# Altium footprint library CONN_TBLOCK_5P0_A.PcbLib: 45 footprints (part 2 of 3)
Each footprint in its own frame and in the unit in brackets; x right, y up, seen from the top. Pads: shape width x height; smd on the part's side, far side on the other; paste and mask are expansions set on the pad; w line width, h text height; cw(c..) or ccw(c..) is an arc to the next point about the centre after c.
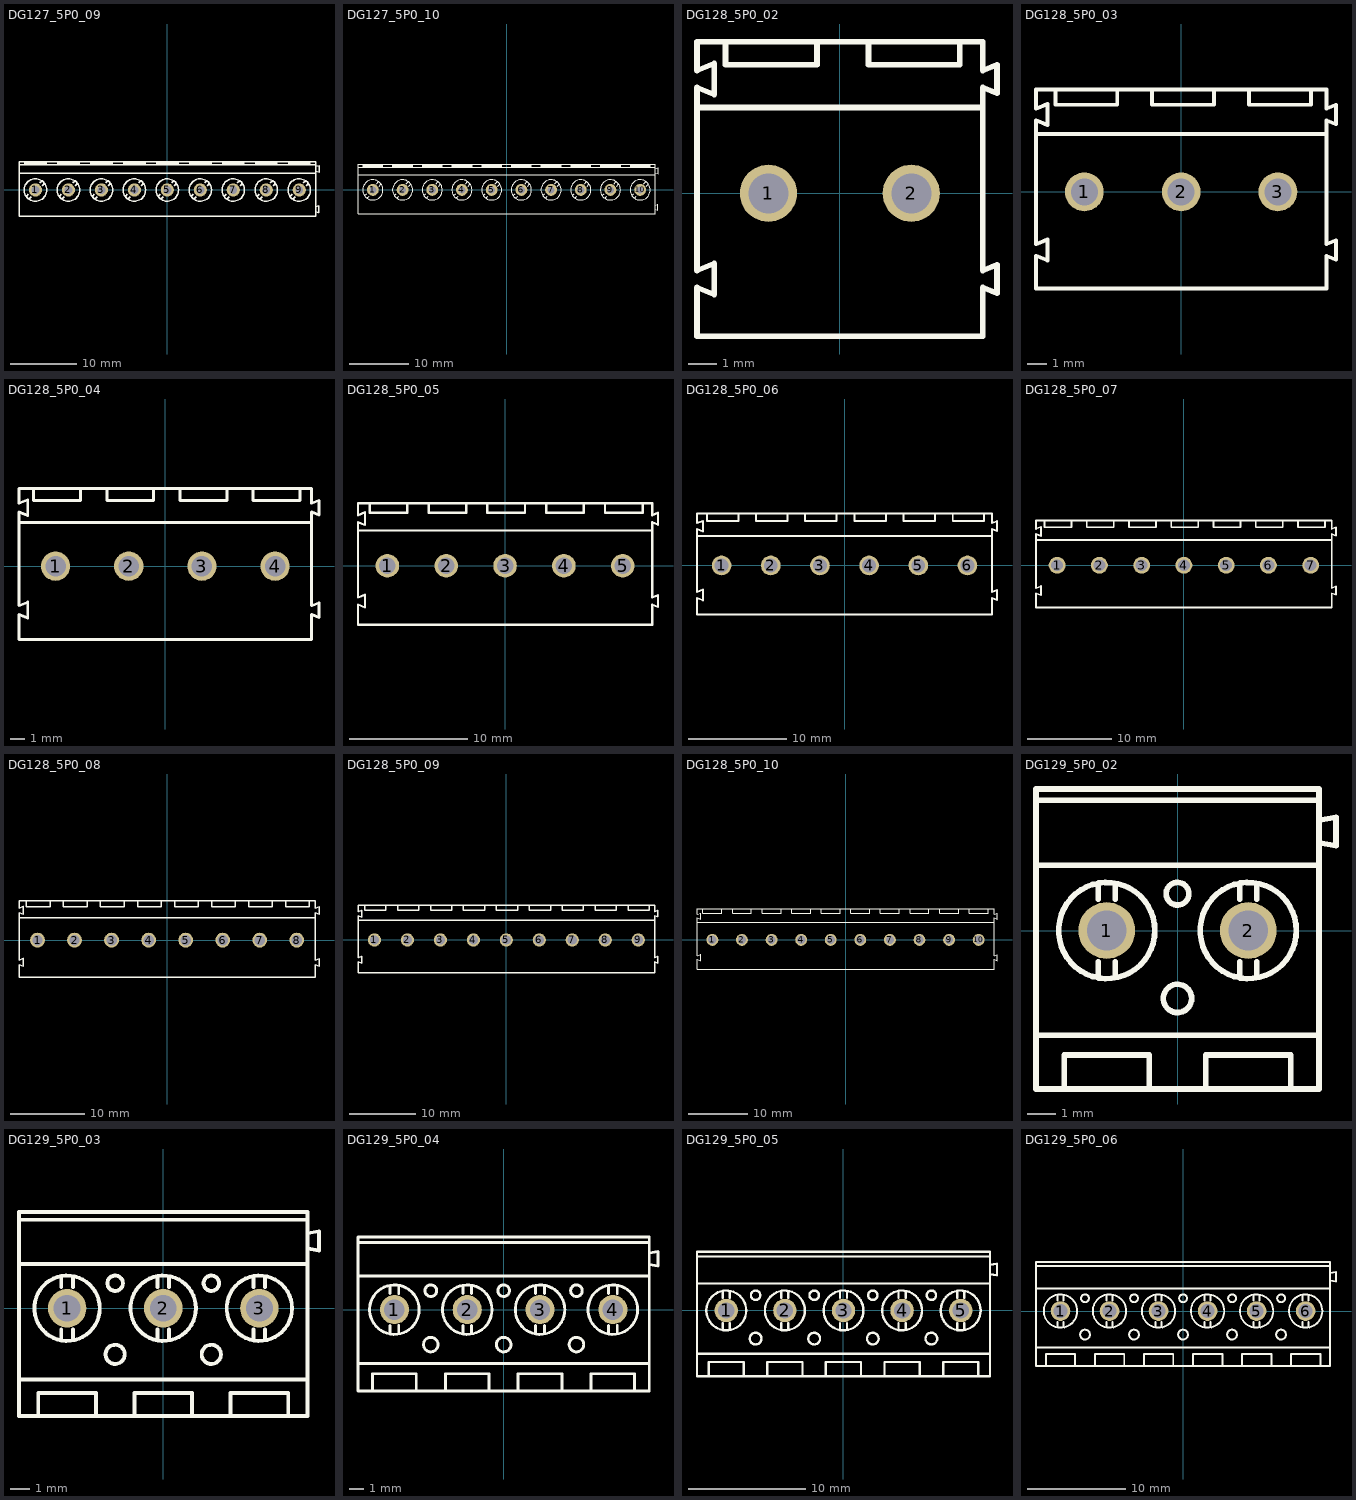
[diagram p1: the footprints below, top view; thin cyan lines are the x and y axes]

## DG127_5P0_09 [mm] "Terminal Block Screw, Pitch 5mm, H10mm, DG127-5.0-xxP"
height 10
pads (9):
  round 2 / inner round 2 / far side rect 2.4x3 hole 1.2: 1(-20,0)
  round 2 / inner round 2 / far side oval 2.4x3 hole 1.2: 2(-15,0) 3(-10,0) 4(-5,0) 5(0,0) 6(5,0) 7(10,0) 8(15,0) 9(20,0)
Top Overlay:
  circle w0.2: c-20,0 r1.7
  circle w0.2: c-15,0 r1.7
  circle w0.2: c-5,0 r1.7
  circle w0.2: c-10,0 r1.7
  circle w0.2: c5,0 r1.7
  circle w0.2: c0,0 r1.7
  circle w0.2: c15,0 r1.7
  circle w0.2: c10,0 r1.7
  circle w0.2: c20,0 r1.7
  region: 18.3,3.8 18.3,4.3 21.7,4.3 21.7,3.8
  region: 13.3,3.8 13.3,4.3 16.7,4.3 16.7,3.8
  region: 8.3,3.8 8.3,4.3 11.7,4.3 11.7,3.8
  region: 3.3,3.8 3.3,4.3 6.7,4.3 6.7,3.8
  region: -1.7,3.8 -1.7,4.3 1.7,4.3 1.7,3.8
  region: -6.7,3.8 -6.7,4.3 -3.3,4.3 -3.3,3.8
  region: -11.7,3.8 -11.7,4.3 -8.3,4.3 -8.3,3.8
  region: -16.7,3.8 -16.7,4.3 -13.3,4.3 -13.3,3.8
  region: -21.7,3.8 -21.7,4.3 -18.3,4.3 -18.3,3.8
  lines w0.2: -22.5,2.562 22.5,2.562 ; -22.5,3.8 22.5,3.8 ; -21.343,-0.919 -21.06,-0.636 ; -20.919,-1.344 -20.636,-1.061 ; -19.363,1.061 -19.081,1.343 ; -18.939,0.636 -18.656,0.919 ; -16.343,-0.919 -16.06,-0.636 ; -15.919,-1.344 -15.636,-1.061 ; -14.363,1.061 -14.081,1.343 ; -13.939,0.636 -13.656,0.919 ; -11.344,-0.919 -11.061,-0.636 ; -10.919,-1.344 -10.636,-1.061 ; -9.364,1.061 -9.081,1.343 ; -8.939,0.636 -8.657,0.919 ; -6.344,-0.919 -6.061,-0.636 ; -5.919,-1.344 -5.636,-1.061 ; -4.364,1.061 -4.081,1.343 ; -3.939,0.636 -3.657,0.919 ; -1.344,-0.919 -1.061,-0.636 ; -0.919,-1.344 -0.637,-1.061 ; 0.636,1.061 0.919,1.343 ; 1.061,0.636 1.343,0.919 ; 3.656,-0.919 3.939,-0.636 ; 4.081,-1.344 4.363,-1.061 ; 5.636,1.061 5.919,1.343 ; 6.06,0.636 6.343,0.919 ; 8.656,-0.919 8.939,-0.636 ; 9.08,-1.344 9.363,-1.061 ; 10.636,1.061 10.919,1.343 ; 11.06,0.636 11.343,0.919 ; 13.656,-0.919 13.939,-0.636 ; 14.08,-1.344 14.363,-1.061 ; 15.636,1.061 15.919,1.343 ; 16.06,0.636 16.343,0.919 ; 18.656,-0.919 18.939,-0.636 ; 19.08,-1.344 19.363,-1.061 ; 20.636,1.061 20.919,1.343 ; 21.06,0.636 21.343,0.919 ; 22.5,-3.3 22.994,-3.424 22.994,-2.424 22.5,-2.547 ; 22.506,2.824 23,2.7 23,3.7 22.506,3.576 ; -22.5,-4 -22.5,4.3 22.5,4.3 22.5,-4 -22.5,-4
3D body "DG127-5.0-09P-14.stp": height 10.1, standoff -3.7, extent -22.5,-3.9 23,4.2

## DG127_5P0_10 [mm] "Terminal Block Screw, Pitch 5mm, H10mm, DG127-5.0-xxP"
height 10
pads (10):
  round 2 / inner round 2 / far side rect 2.4x3 hole 1.2: 1(-22.5,0)
  round 2 / inner round 2 / far side oval 2.4x3 hole 1.2: 2(-17.5,0) 3(-12.5,0) 4(-7.5,0) 5(-2.5,0) 6(2.5,0) 7(7.5,0) 8(12.5,0) 9(17.5,0) 10(22.5,0)
Top Overlay:
  circle w0.2: c17.5,0 r1.7
  circle w0.2: c22.5,0 r1.7
  circle w0.2: c7.5,0 r1.7
  circle w0.2: c12.5,0 r1.7
  circle w0.2: c-2.5,0 r1.7
  circle w0.2: c2.5,0 r1.7
  circle w0.2: c-12.5,0 r1.7
  circle w0.2: c-7.5,0 r1.7
  circle w0.2: c-22.5,0 r1.7
  circle w0.2: c-17.5,0 r1.7
  region: 20.8,3.8 20.8,4.3 24.2,4.3 24.2,3.8
  region: 15.8,3.8 15.8,4.3 19.2,4.3 19.2,3.8
  region: 10.8,3.8 10.8,4.3 14.2,4.3 14.2,3.8
  region: 5.8,3.8 5.8,4.3 9.2,4.3 9.2,3.8
  region: 0.8,3.8 0.8,4.3 4.2,4.3 4.2,3.8
  region: -4.2,3.8 -4.2,4.3 -0.8,4.3 -0.8,3.8
  region: -9.2,3.8 -9.2,4.3 -5.8,4.3 -5.8,3.8
  region: -14.2,3.8 -14.2,4.3 -10.8,4.3 -10.8,3.8
  region: -19.2,3.8 -19.2,4.3 -15.8,4.3 -15.8,3.8
  region: -24.2,3.8 -24.2,4.3 -20.8,4.3 -20.8,3.8
  lines w0.2: -25,2.562 25,2.562 ; -25,3.8 25,3.8 ; -23.843,-0.919 -23.56,-0.636 ; -23.419,-1.344 -23.136,-1.061 ; -21.863,1.061 -21.581,1.343 ; -21.439,0.636 -21.156,0.919 ; -18.843,-0.919 -18.56,-0.636 ; -18.419,-1.344 -18.136,-1.061 ; -16.863,1.061 -16.581,1.343 ; -16.439,0.636 -16.156,0.919 ; -13.843,-0.919 -13.561,-0.636 ; -13.419,-1.344 -13.136,-1.061 ; -11.863,1.061 -11.581,1.343 ; -11.439,0.636 -11.156,0.919 ; -8.843,-0.919 -8.561,-0.636 ; -8.419,-1.344 -8.136,-1.061 ; -6.864,1.061 -6.581,1.343 ; -6.439,0.636 -6.156,0.919 ; -3.843,-0.919 -3.561,-0.636 ; -3.419,-1.344 -3.136,-1.061 ; -1.864,1.061 -1.581,1.343 ; -1.439,0.636 -1.156,0.919 ; 1.156,-0.919 1.439,-0.636 ; 1.581,-1.344 1.864,-1.061 ; 3.136,1.061 3.419,1.343 ; 3.561,0.636 3.843,0.919 ; 6.156,-0.919 6.439,-0.636 ; 6.581,-1.344 6.863,-1.061 ; 8.136,1.061 8.419,1.343 ; 8.561,0.636 8.843,0.919 ; 11.156,-0.919 11.439,-0.636 ; 11.581,-1.344 11.863,-1.061 ; 13.136,1.061 13.419,1.343 ; 13.56,0.636 13.843,0.919 ; 16.156,-0.919 16.439,-0.636 ; 16.581,-1.344 16.863,-1.061 ; 18.136,1.061 18.419,1.343 ; 18.56,0.636 18.843,0.919 ; 21.156,-0.919 21.439,-0.636 ; 21.58,-1.344 21.863,-1.061 ; 23.136,1.061 23.419,1.343 ; 23.56,0.636 23.843,0.919 ; 25,-3.3 25.494,-3.424 25.494,-2.424 25,-2.547 ; 25.006,2.824 25.5,2.7 25.5,3.7 25.006,3.576 ; -25,-4 -25,4.3 25,4.3 25,-4 -25,-4
3D body "DG127-5.0-10P-14.stp": height 10.1, standoff -3.7, extent -25,-3.9 25.5,4.2

## DG128_5P0_02 [mm] "Terminal Block, Pitch 5mm, 20A/300v"
height 14.1
pads (2):
  round 2 / inner round 2 / far side oval 2x3.6 hole 1.4: 1(-2.5,0) 2(2.5,0)
Top Overlay:
  lines w0.2: -5,3 5,3 ; -4,5.3 -4,4.5 -0.8,4.5 -0.8,5.3 ; 1,5.3 1,4.5 4.2,4.5 4.2,5.3 ; -5,-5 5,-5 5,-3.3 5.5,-3.5 5.5,-2.5 5,-2.7 5,3.7 5.5,3.5 5.5,4.5 5,4.3 5,5.3 -5,5.3 -5,4.3 -4.4,4.54 -4.4,3.46 -5,3.7 -5,-2.7 -4.4,-2.46 -4.4,-3.54 -5,-3.3 -5,-5
3D body "DG128-5.0-02.stp": height 14.1, standoff -3.5, extent -5,-5 5.6,5.2

## DG128_5P0_03 [mm] "Terminal Block, Pitch 5mm, 20A/300v"
height 14.1
pads (3):
  round 2 / inner round 2 / far side oval 2x3.6 hole 1.4: 1(-5,0) 2(0,0) 3(5,0)
Top Overlay:
  lines w0.2: -7.5,3 7.5,3 ; -6.5,5.3 -6.5,4.5 -3.3,4.5 -3.3,5.3 ; -1.5,5.3 -1.5,4.5 1.7,4.5 1.7,5.3 ; 3.5,5.3 3.5,4.5 6.7,4.5 6.7,5.3 ; -7.5,-5 7.5,-5 7.5,-3.3 8,-3.5 8,-2.5 7.5,-2.7 7.5,3.7 8,3.5 8,4.5 7.5,4.3 7.5,5.3 -7.5,5.3 -7.5,4.3 -6.9,4.54 -6.9,3.46 -7.5,3.7 -7.5,-2.7 -6.9,-2.46 -6.9,-3.54 -7.5,-3.3 -7.5,-5
3D body "DG128-5.0-03.stp": height 14.1, standoff -3.5, extent -7.5,-5 8.1,5.2

## DG128_5P0_04 [mm] "Terminal Block, Pitch 5mm, 20A/300v"
height 14.1
pads (4):
  round 2 / inner round 2 / far side oval 2x3.6 hole 1.4: 1(-7.5,0) 2(-2.5,0) 3(2.5,0) 4(7.5,0)
Top Overlay:
  lines w0.2: -10,3 10,3 ; -9,5.3 -9,4.5 -5.8,4.5 -5.8,5.3 ; -4,5.3 -4,4.5 -0.8,4.5 -0.8,5.3 ; 1,5.3 1,4.5 4.2,4.5 4.2,5.3 ; 6,5.3 6,4.5 9.2,4.5 9.2,5.3 ; -10,-5 10,-5 10,-3.3 10.5,-3.5 10.5,-2.5 10,-2.7 10,3.7 10.5,3.5 10.5,4.5 10,4.3 10,5.3 -10,5.3 -10,4.3 -9.4,4.54 -9.4,3.46 -10,3.7 -10,-2.7 -9.4,-2.46 -9.4,-3.54 -10,-3.3 -10,-5
3D body "DG128-5.0-04.stp": height 14.1, standoff -3.5, extent -10,-4.95 10.6,5.25

## DG128_5P0_05 [mm] "Terminal Block, Pitch 5mm, 20A/300v"
height 14.1
pads (5):
  round 2 / inner round 2 / far side oval 2x3.6 hole 1.4: 1(-10,0) 2(-5,0) 3(0,0) 4(5,0) 5(10,0)
Top Overlay:
  lines w0.2: -12.5,3 12.5,3 ; -11.5,5.3 -11.5,4.5 -8.3,4.5 -8.3,5.3 ; -6.5,5.3 -6.5,4.5 -3.3,4.5 -3.3,5.3 ; -1.5,5.3 -1.5,4.5 1.7,4.5 1.7,5.3 ; 3.5,5.3 3.5,4.5 6.7,4.5 6.7,5.3 ; 8.5,5.3 8.5,4.5 11.7,4.5 11.7,5.3 ; -12.5,-5 12.5,-5 12.5,-3.3 13,-3.5 13,-2.5 12.5,-2.7 12.5,3.7 13,3.5 13,4.5 12.5,4.3 12.5,5.3 -12.5,5.3 -12.5,4.3 -11.9,4.54 -11.9,3.46 -12.5,3.7 -12.5,-2.7 -11.9,-2.46 -11.9,-3.54 -12.5,-3.3 -12.5,-5
3D body "DG128-5.0-05.stp": height 14.1, standoff -3.5, extent -12.5,-5 13.1,5.2

## DG128_5P0_06 [mm] "Terminal Block, Pitch 5mm, 20A/300v"
height 14.1
pads (6):
  round 2 / inner round 2 / far side oval 2x3.6 hole 1.4: 1(-12.5,0) 2(-7.5,0) 3(-2.5,0) 4(2.5,0) 5(7.5,0) 6(12.5,0)
Top Overlay:
  lines w0.2: -15,3 15,3 ; -14,5.3 -14,4.5 -10.8,4.5 -10.8,5.3 ; -9,5.3 -9,4.5 -5.8,4.5 -5.8,5.3 ; -4,5.3 -4,4.5 -0.8,4.5 -0.8,5.3 ; 1,5.3 1,4.5 4.2,4.5 4.2,5.3 ; 6,5.3 6,4.5 9.2,4.5 9.2,5.3 ; 11,5.3 11,4.5 14.2,4.5 14.2,5.3 ; -15,-5 -15,-3.3 -14.4,-3.54 -14.4,-2.46 -15,-2.7 -15,3.7 -14.4,3.46 -14.4,4.54 -15,4.3 -15,5.3 15,5.3 15,4.3 15.5,4.5 15.5,3.5 15,3.7 15,-2.7 15.5,-2.5 15.5,-3.5 15,-3.3 15,-5 -15,-5
3D body "DG128-5.0-06.stp": height 14.1, standoff -3.5, extent -15,-4.95 15.6,5.25

## DG128_5P0_07 [mm] "Terminal Block, Pitch 5mm, 20A/300v"
height 14.1
pads (7):
  round 2 / inner round 2 / far side oval 2x3.6 hole 1.4: 1(-15,0) 2(-10,0) 3(-5,0) 4(0,0) 5(5,0) 6(10,0) 7(15,0)
Top Overlay:
  lines w0.2: -17.5,3 17.5,3 ; -16.5,5.3 -16.5,4.5 -13.3,4.5 -13.3,5.3 ; -11.5,5.3 -11.5,4.5 -8.3,4.5 -8.3,5.3 ; -6.5,5.3 -6.5,4.5 -3.3,4.5 -3.3,5.3 ; -1.5,5.3 -1.5,4.5 1.7,4.5 1.7,5.3 ; 3.5,5.3 3.5,4.5 6.7,4.5 6.7,5.3 ; 8.5,5.3 8.5,4.5 11.7,4.5 11.7,5.3 ; 13.5,5.3 13.5,4.5 16.7,4.5 16.7,5.3 ; -17.5,-5 17.5,-5 17.5,-3.3 18,-3.5 18,-2.5 17.5,-2.7 17.5,3.7 18,3.5 18,4.5 17.5,4.3 17.5,5.3 -17.5,5.3 -17.5,4.3 -16.9,4.54 -16.9,3.46 -17.5,3.7 -17.5,-2.7 -16.9,-2.46 -16.9,-3.54 -17.5,-3.3 -17.5,-5
3D body "DG128-5.0-07.stp": height 14.1, standoff -3.5, extent -17.5,-5 18.1,5.2

## DG128_5P0_08 [mm] "Terminal Block, Pitch 5mm, 20A/300v"
height 14.1
pads (8):
  round 2 / inner round 2 / far side oval 2x3.6 hole 1.4: 1(-17.5,0) 2(-12.5,0) 3(-7.5,0) 4(-2.5,0) 5(2.5,0) 6(7.5,0) 7(12.5,0) 8(17.5,0)
Top Overlay:
  lines w0.2: -20,3 20,3 ; -19,5.3 -19,4.5 -15.8,4.5 -15.8,5.3 ; -14,5.3 -14,4.5 -10.8,4.5 -10.8,5.3 ; -9,5.3 -9,4.5 -5.8,4.5 -5.8,5.3 ; -4,5.3 -4,4.5 -0.8,4.5 -0.8,5.3 ; 1,5.3 1,4.5 4.2,4.5 4.2,5.3 ; 6,5.3 6,4.5 9.2,4.5 9.2,5.3 ; 11,5.3 11,4.5 14.2,4.5 14.2,5.3 ; 16,5.3 16,4.5 19.2,4.5 19.2,5.3 ; -20,-5 -20,-3.3 -19.4,-3.54 -19.4,-2.46 -20,-2.7 -20,3.7 -19.4,3.46 -19.4,4.54 -20,4.3 -20,5.3 20,5.3 20,4.3 20.5,4.5 20.5,3.5 20,3.7 20,-2.7 20.5,-2.5 20.5,-3.5 20,-3.3 20,-5 -20,-5
3D body "DG128-5.0-08.stp": height 14.1, standoff -3.5, extent -20,-4.95 20.6,5.25

## DG128_5P0_09 [mm] "Terminal Block, Pitch 5mm, 20A/300v"
height 14.1
pads (9):
  round 2 / inner round 2 / far side oval 2x3.6 hole 1.4: 1(-20,0) 2(-15,0) 3(-10,0) 4(-5,0) 5(0,0) 6(5,0) 7(10,0) 8(15,0) 9(20,0)
Top Overlay:
  lines w0.2: -22.5,3 22.5,3 ; -21.5,5.3 -21.5,4.5 -18.3,4.5 -18.3,5.3 ; -16.5,5.3 -16.5,4.5 -13.3,4.5 -13.3,5.3 ; -11.5,5.3 -11.5,4.5 -8.3,4.5 -8.3,5.3 ; -6.5,5.3 -6.5,4.5 -3.3,4.5 -3.3,5.3 ; -1.5,5.3 -1.5,4.5 1.7,4.5 1.7,5.3 ; 3.5,5.3 3.5,4.5 6.7,4.5 6.7,5.3 ; 8.5,5.3 8.5,4.5 11.7,4.5 11.7,5.3 ; 13.5,5.3 13.5,4.5 16.7,4.5 16.7,5.3 ; 18.5,5.3 18.5,4.5 21.7,4.5 21.7,5.3 ; -22.5,-5 -22.5,-3.3 -21.9,-3.54 -21.9,-2.46 -22.5,-2.7 -22.5,3.7 -21.9,3.46 -21.9,4.54 -22.5,4.3 -22.5,5.3 22.5,5.3 22.5,4.3 23,4.5 23,3.5 22.5,3.7 22.5,-2.7 23,-2.5 23,-3.5 22.5,-3.3 22.5,-5 -22.5,-5
3D body "DG128-5.0-09.stp": height 14.1, standoff -3.5, extent -22.5,-5 23.1,5.2

## DG128_5P0_10 [mm] "Terminal Block, Pitch 5mm, 20A/300v"
height 14.1
pads (10):
  round 2 / inner round 2 / far side oval 2x3.6 hole 1.4: 1(-22.5,0) 2(-17.5,0) 3(-12.5,0) 4(-7.5,0) 5(-2.5,0) 6(2.5,0) 7(7.5,0) 8(12.5,0) 9(17.5,0) 10(22.5,0)
Top Overlay:
  lines w0.2: -25.1,3 25.1,3 ; -24.1,5.3 -24.1,4.5 -20.9,4.5 -20.9,5.3 ; -19.1,5.3 -19.1,4.5 -15.9,4.5 -15.9,5.3 ; -14.1,5.3 -14.1,4.5 -10.9,4.5 -10.9,5.3 ; -9.1,5.3 -9.1,4.5 -5.9,4.5 -5.9,5.3 ; -4.1,5.3 -4.1,4.5 -0.9,4.5 -0.9,5.3 ; 0.9,5.3 0.9,4.5 4.1,4.5 4.1,5.3 ; 5.9,5.3 5.9,4.5 9.1,4.5 9.1,5.3 ; 10.9,5.3 10.9,4.5 14.1,4.5 14.1,5.3 ; 15.9,5.3 15.9,4.5 19.1,4.5 19.1,5.3 ; 20.9,5.3 20.9,4.5 24.1,4.5 24.1,5.3 ; -25.1,-5 -25.1,-3.3 -24.5,-3.54 -24.5,-2.46 -25.1,-2.7 -25.1,3.7 -24.5,3.46 -24.5,4.54 -25.1,4.3 -25.1,5.3 25.1,5.3 25.1,4.3 25.6,4.5 25.6,3.5 25.1,3.7 25.1,-2.7 25.6,-2.5 25.6,-3.5 25.1,-3.3 25.1,-5 -25.1,-5
3D body "DG128-5.0-10.stp": height 14.15, standoff -3.45, extent -25,-4.954 25.6,5.246

## DG129_5P0_02 [mm] "Terminal Block Screw, Pitch 5mm, H20mm"
height 20
pads (2):
  round 2 / inner round 2 / far side oval 2.4x3 hole 1.4: 1(-2.5,0) 2(2.5,0)
Top Overlay:
  circle w0.2: c-2.5,0 r1.7
  circle w0.2: c2.5,0 r1.7
  circle w0.2: c0,1.3 r0.4
  circle w0.2: c0,-2.4 r0.5
  lines w0.2: -5,-3.7 5,-3.7 ; -5,2.3 5,2.3 ; -5,4.6 5,4.6 ; -4,-5.6 -4,-4.4 -1,-4.4 -1,-5.6 ; -2.8,-1.6 -2.8,-1.1 ; -2.8,1.1 -2.8,1.6 ; -2.2,-1.6 -2.2,-1.1 ; -2.2,1.1 -2.2,1.6 ; 1,-5.6 1,-4.4 4,-4.4 4,-5.6 ; 2.2,-1.6 2.2,-1.1 ; 2.2,1.1 2.2,1.6 ; 2.8,-1.6 2.8,-1.1 ; 2.8,1.1 2.8,1.6 ; 5,3.1 5.6,3 5.6,4 5,3.9 ; -5,-5.6 5,-5.6 5,5 -5,5 -5,-5.6
3D body "DG129-5.0-02P-14.stp": height 19.5, standoff -3.95, extent -5,-5.6 5.6,4.9

## DG129_5P0_03 [mm] "Terminal Block Screw, Pitch 5mm, H20mm"
height 20
pads (3):
  round 2 / inner round 2 / far side oval 2.4x3 hole 1.4: 1(-5,0) 2(0,0) 3(5,0)
Top Overlay:
  circle w0.2: c-5,0 r1.7
  circle w0.2: c0,0 r1.7
  circle w0.2: c-2.5,1.3 r0.4
  circle w0.2: c-2.5,-2.4 r0.5
  circle w0.2: c5,0 r1.7
  circle w0.2: c2.5,1.3 r0.4
  circle w0.2: c2.5,-2.4 r0.5
  lines w0.2: -7.5,-3.7 7.5,-3.7 ; -7.5,2.3 7.5,2.3 ; -7.5,4.6 7.5,4.6 ; -6.5,-5.6 -6.5,-4.4 -3.5,-4.4 -3.5,-5.6 ; -5.3,-1.6 -5.3,-1.1 ; -5.3,1.1 -5.3,1.6 ; -4.7,-1.6 -4.7,-1.1 ; -4.7,1.1 -4.7,1.6 ; -1.5,-5.6 -1.5,-4.4 1.5,-4.4 1.5,-5.6 ; -0.3,-1.6 -0.3,-1.1 ; -0.3,1.1 -0.3,1.6 ; 0.3,-1.6 0.3,-1.1 ; 0.3,1.1 0.3,1.6 ; 3.5,-5.6 3.5,-4.4 6.5,-4.4 6.5,-5.6 ; 4.7,-1.6 4.7,-1.1 ; 4.7,1.1 4.7,1.6 ; 5.3,-1.6 5.3,-1.1 ; 5.3,1.1 5.3,1.6 ; 7.5,-5.6 7.5,5 ; 7.5,3.1 8.1,3 8.1,4 7.5,3.9 ; 7.5,-5.6 -7.5,-5.6 -7.5,5 7.5,5
3D body "DG129-5.0-03P-14.stp": height 19.5, standoff -3.95, extent -7.5,-5.6 8.1,4.9

## DG129_5P0_04 [mm] "Terminal Block Screw, Pitch 5mm, H20mm"
height 20
pads (4):
  round 2 / inner round 2 / far side oval 2.4x3 hole 1.4: 1(-7.5,0) 2(-2.5,0) 3(2.5,0) 4(7.5,0)
Top Overlay:
  circle w0.2: c-5,-2.4 r0.5
  circle w0.2: c-5,1.3 r0.4
  circle w0.2: c-2.5,0 r1.7
  circle w0.2: c-7.5,0 r1.7
  circle w0.2: c2.5,0 r1.7
  circle w0.2: c0,1.3 r0.4
  circle w0.2: c0,-2.4 r0.5
  circle w0.2: c7.5,0 r1.7
  circle w0.2: c5,1.3 r0.4
  circle w0.2: c5,-2.4 r0.5
  lines w0.2: -10,-3.7 10,-3.7 ; -10,2.3 10,2.3 ; -10,4.6 10,4.6 ; -9,-5.6 -9,-4.4 -6,-4.4 -6,-5.6 ; -7.8,-1.6 -7.8,-1.1 ; -7.8,1.1 -7.8,1.6 ; -7.2,-1.6 -7.2,-1.1 ; -7.2,1.1 -7.2,1.6 ; -4,-5.6 -4,-4.4 -1,-4.4 -1,-5.6 ; -2.8,-1.6 -2.8,-1.1 ; -2.8,1.1 -2.8,1.6 ; -2.2,-1.6 -2.2,-1.1 ; -2.2,1.1 -2.2,1.6 ; 1,-5.6 1,-4.4 4,-4.4 4,-5.6 ; 2.2,-1.6 2.2,-1.1 ; 2.2,1.1 2.2,1.6 ; 2.8,-1.6 2.8,-1.1 ; 2.8,1.1 2.8,1.6 ; 6,-5.6 6,-4.4 9,-4.4 9,-5.6 ; 7.2,-1.6 7.2,-1.1 ; 7.2,1.1 7.2,1.6 ; 7.8,-1.6 7.8,-1.1 ; 7.8,1.1 7.8,1.6 ; 10,3.1 10.6,3 10.6,4 10,3.9 ; -10,-5.6 -10,5 10,5 10,-5.6 -10,-5.6
3D body "DG129-5.0-04P-14.stp": height 19.5, standoff -3.95, extent -10,-5.6 10.6,4.9

## DG129_5P0_05 [mm] "Terminal Block Screw, Pitch 5mm, H20mm"
height 20
pads (5):
  round 2 / inner round 2 / far side oval 2.4x3 hole 1.4: 1(-10,0) 2(-5,0) 3(0,0) 4(5,0) 5(10,0)
Top Overlay:
  circle w0.2: c7.5,-2.4 r0.5
  circle w0.2: c7.5,1.3 r0.4
  circle w0.2: c10,0 r1.7
  circle w0.2: c2.5,-2.4 r0.5
  circle w0.2: c2.5,1.3 r0.4
  circle w0.2: c5,0 r1.7
  circle w0.2: c-2.5,-2.4 r0.5
  circle w0.2: c-2.5,1.3 r0.4
  circle w0.2: c0,0 r1.7
  circle w0.2: c-7.5,-2.4 r0.5
  circle w0.2: c-7.5,1.3 r0.4
  circle w0.2: c-5,0 r1.7
  circle w0.2: c-10,0 r1.7
  lines w0.2: -12.5,-3.7 12.5,-3.7 ; -12.5,2.3 12.5,2.3 ; -12.5,4.6 12.5,4.6 ; -11.5,-5.6 -11.5,-4.4 -8.5,-4.4 -8.5,-5.6 ; -10.3,-1.6 -10.3,-1.1 ; -10.3,1.1 -10.3,1.6 ; -9.7,-1.6 -9.7,-1.1 ; -9.7,1.1 -9.7,1.6 ; -6.5,-5.6 -6.5,-4.4 -3.5,-4.4 -3.5,-5.6 ; -5.3,-1.6 -5.3,-1.1 ; -5.3,1.1 -5.3,1.6 ; -4.7,-1.6 -4.7,-1.1 ; -4.7,1.1 -4.7,1.6 ; -1.5,-5.6 -1.5,-4.4 1.5,-4.4 1.5,-5.6 ; -0.3,-1.6 -0.3,-1.1 ; -0.3,1.1 -0.3,1.6 ; 0.3,-1.6 0.3,-1.1 ; 0.3,1.1 0.3,1.6 ; 3.5,-5.6 3.5,-4.4 6.5,-4.4 6.5,-5.6 ; 4.7,-1.6 4.7,-1.1 ; 4.7,1.1 4.7,1.6 ; 5.3,-1.6 5.3,-1.1 ; 5.3,1.1 5.3,1.6 ; 8.5,-5.6 8.5,-4.4 11.5,-4.4 11.5,-5.6 ; 9.7,-1.6 9.7,-1.1 ; 9.7,1.1 9.7,1.6 ; 10.3,-1.6 10.3,-1.1 ; 10.3,1.1 10.3,1.6 ; 12.5,-5.6 12.5,5 ; 12.5,3.1 13.1,3 13.1,4 12.5,3.9 ; 12.5,-5.6 -12.5,-5.6 -12.5,5 12.5,5
3D body "DG129-5.0-05P-14.stp": height 19.5, standoff -3.95, extent -12.5,-5.6 13.1,4.9

## DG129_5P0_06 [mm] "Terminal Block Screw, Pitch 5mm, H20mm"
height 20
pads (6):
  round 2 / inner round 2 / far side oval 2.4x3 hole 1.4: 1(-12.5,0) 2(-7.5,0) 3(-2.5,0) 4(2.5,0) 5(7.5,0) 6(12.5,0)
Top Overlay:
  circle w0.2: c-10,-2.4 r0.5
  circle w0.2: c-10,1.3 r0.4
  circle w0.2: c-7.5,0 r1.7
  circle w0.2: c-12.5,0 r1.7
  circle w0.2: c-2.5,0 r1.7
  circle w0.2: c-5,1.3 r0.4
  circle w0.2: c-5,-2.4 r0.5
  circle w0.2: c2.5,0 r1.7
  circle w0.2: c0,1.3 r0.4
  circle w0.2: c0,-2.4 r0.5
  circle w0.2: c7.5,0 r1.7
  circle w0.2: c5,1.3 r0.4
  circle w0.2: c5,-2.4 r0.5
  circle w0.2: c12.5,0 r1.7
  circle w0.2: c10,1.3 r0.4
  circle w0.2: c10,-2.4 r0.5
  lines w0.2: -15,-3.7 15,-3.7 ; -15,2.3 15,2.3 ; -15,4.6 15,4.6 ; -14,-5.6 -14,-4.4 -11,-4.4 -11,-5.6 ; -12.8,-1.6 -12.8,-1.1 ; -12.8,1.1 -12.8,1.6 ; -12.2,-1.6 -12.2,-1.1 ; -12.2,1.1 -12.2,1.6 ; -9,-5.6 -9,-4.4 -6,-4.4 -6,-5.6 ; -7.8,-1.6 -7.8,-1.1 ; -7.8,1.1 -7.8,1.6 ; -7.2,-1.6 -7.2,-1.1 ; -7.2,1.1 -7.2,1.6 ; -4,-5.6 -4,-4.4 -1,-4.4 -1,-5.6 ; -2.8,-1.6 -2.8,-1.1 ; -2.8,1.1 -2.8,1.6 ; -2.2,-1.6 -2.2,-1.1 ; -2.2,1.1 -2.2,1.6 ; 1,-5.6 1,-4.4 4,-4.4 4,-5.6 ; 2.2,-1.6 2.2,-1.1 ; 2.2,1.1 2.2,1.6 ; 2.8,-1.6 2.8,-1.1 ; 2.8,1.1 2.8,1.6 ; 6,-5.6 6,-4.4 9,-4.4 9,-5.6 ; 7.2,-1.6 7.2,-1.1 ; 7.2,1.1 7.2,1.6 ; 7.8,-1.6 7.8,-1.1 ; 7.8,1.1 7.8,1.6 ; 11,-5.6 11,-4.4 14,-4.4 14,-5.6 ; 12.2,-1.6 12.2,-1.1 ; 12.2,1.1 12.2,1.6 ; 12.8,-1.6 12.8,-1.1 ; 12.8,1.1 12.8,1.6 ; 15,3.1 15.6,3 15.6,4 15,3.9 ; -15,-5.6 -15,5 15,5 15,-5.6 -15,-5.6
3D body "DG129-5.0-06P-14.stp": height 19.5, standoff -3.95, extent -15,-5.6 15.6,4.9